# Altium footprint library CONN_TBLOCK_3P81.PcbLib: 55 footprints (part 4 of 4)
Each footprint in its own frame and in the unit in brackets; x right, y up, seen from the top. Pads: shape width x height; smd on the part's side, far side on the other; paste and mask are expansions set on the pad; w line width, h text height; cw(c..) or ccw(c..) is an arc to the next point about the centre after c.
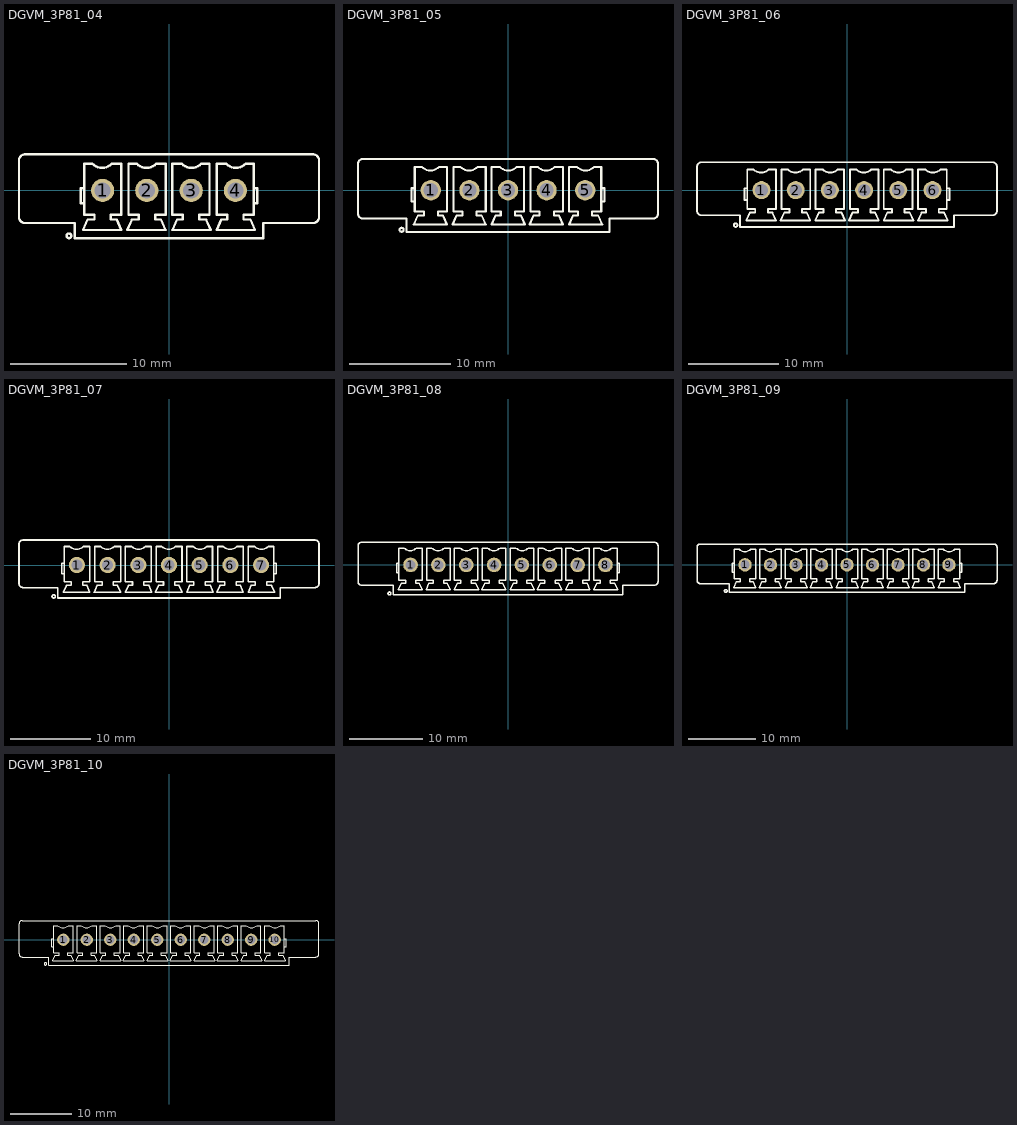
[diagram p3: the footprints below, top view; thin cyan lines are the x and y axes]

## DGVM_3P81_04 [mm] "Terminal Block, 3.81mm pitch, Straight, Screw fixed"
pads (4):
  round 2 / inner round 2 / far side oval 2.4x3 hole 1.4: 1(-5.715,0) 2(-1.905,0) 3(1.905,0) 4(5.715,0)
Top Overlay:
  circle w0.2: c-8.6,-3.9 r0.2
  lines w0.2: -7.3,-1.1 -7.6,-1.1 -7.6,0.2 -7.3,0.2 ; 7.3,-1.1 7.6,-1.1 7.6,0.2 7.3,0.2 ; -12.9,-2.3 ccw(c-12.4,-2.3) -12.4,-2.8 -8.1,-2.8 -8.1,-4.1 8.1,-4.1 8.1,-2.8 12.4,-2.8 ccw(c12.4,-2.3) 12.9,-2.3 12.9,2.6 ccw(c12.4,2.6) 12.4,3.1 -12.4,3.1 ccw(c-12.4,2.6) -12.9,2.6 -12.9,-2.3 ; -7.4,-3.4 -4.1,-3.4 -4.5,-2.5 -5,-2.5 -5,-2.1 -4.1,-2.1 -4.1,2.3 -4.901,2.301 cw(c-5.75,3.15) -6.599,2.301 -7.3,2.3 -7.3,-2.1 -6.4,-2.1 -6.4,-2.5 -7,-2.5 -7.4,-3.4 ; -3.59,-3.4 -0.29,-3.4 -0.69,-2.5 -1.19,-2.5 -1.19,-2.1 -0.29,-2.1 -0.29,2.3 -1.091,2.301 cw(c-1.94,3.15) -2.789,2.301 -3.49,2.3 -3.49,-2.1 -2.59,-2.1 -2.59,-2.5 -3.19,-2.5 -3.59,-3.4 ; 0.29,-3.4 3.59,-3.4 3.19,-2.5 2.59,-2.5 2.59,-2.1 3.49,-2.1 3.49,2.3 2.789,2.301 cw(c1.94,3.15) 1.091,2.301 0.29,2.3 0.29,-2.1 1.19,-2.1 1.19,-2.5 0.69,-2.5 0.29,-3.4 ; 4.1,-3.4 7.4,-3.4 7,-2.5 6.4,-2.5 6.4,-2.1 7.3,-2.1 7.3,2.3 6.599,2.301 cw(c5.75,3.15) 4.901,2.301 4.1,2.3 4.1,-2.1 5,-2.1 5,-2.5 4.5,-2.5 4.1,-3.4
3D body "TBP02R2W-381-04GR.step": height 9.3, standoff -3.4, extent -12.815,-4.2 12.815,3

## DGVM_3P81_05 [mm] "Terminal Block, 3.81mm pitch, Straight, Screw fixed"
pads (5):
  round 2 / inner round 2 / far side oval 2.4x3 hole 1.4: 1(-7.62,0) 2(-3.81,0) 3(0,0) 4(3.81,0) 5(7.62,0)
Top Overlay:
  circle w0.2: c-10.505,-3.9 r0.2
  lines w0.2: -9.205,-1.1 -9.505,-1.1 -9.505,0.2 -9.205,0.2 ; 9.205,-1.1 9.505,-1.1 9.505,0.2 9.205,0.2 ; -14.805,-2.3 ccw(c-14.305,-2.3) -14.305,-2.8 -10.005,-2.8 -10.005,-4.1 10.005,-4.1 10.005,-2.8 14.305,-2.8 ccw(c14.305,-2.3) 14.805,-2.3 14.805,2.6 ccw(c14.305,2.6) 14.305,3.1 -14.305,3.1 ccw(c-14.305,2.6) -14.805,2.6 -14.805,-2.3 ; -9.305,-3.4 -8.905,-2.5 -8.305,-2.5 -8.305,-2.1 -9.205,-2.1 -9.205,2.3 -8.504,2.301 ccw(c-7.655,3.15) -6.806,2.301 -6.005,2.3 -6.005,-2.1 -6.905,-2.1 -6.905,-2.5 -6.405,-2.5 -6.005,-3.4 -9.305,-3.4 ; -5.495,-3.4 -2.195,-3.4 -2.595,-2.5 -3.095,-2.5 -3.095,-2.1 -2.195,-2.1 -2.195,2.3 -2.996,2.301 cw(c-3.845,3.15) -4.694,2.301 -5.395,2.3 -5.395,-2.1 -4.495,-2.1 -4.495,-2.5 -5.095,-2.5 -5.495,-3.4 ; -1.615,-3.4 1.685,-3.4 1.285,-2.5 0.685,-2.5 0.685,-2.1 1.585,-2.1 1.585,2.3 0.884,2.301 cw(c0.035,3.15) -0.814,2.301 -1.615,2.3 -1.615,-2.1 -0.715,-2.1 -0.715,-2.5 -1.215,-2.5 -1.615,-3.4 ; 2.125,-3.4 5.425,-3.4 5.025,-2.5 4.525,-2.5 4.525,-2.1 5.425,-2.1 5.425,2.3 4.624,2.301 cw(c3.775,3.15) 2.926,2.301 2.225,2.3 2.225,-2.1 3.125,-2.1 3.125,-2.5 2.525,-2.5 2.125,-3.4 ; 6.005,-3.4 9.305,-3.4 8.905,-2.5 8.305,-2.5 8.305,-2.1 9.205,-2.1 9.205,2.3 8.504,2.301 cw(c7.655,3.15) 6.806,2.301 6.005,2.3 6.005,-2.1 6.905,-2.1 6.905,-2.5 6.405,-2.5 6.005,-3.4
3D body "TBP02R2W-381-05GR.step": height 9.3, standoff -3.4, extent -14.72,-4.2 14.72,3

## DGVM_3P81_06 [mm] "Terminal Block, 3.81mm pitch, Straight, Screw fixed"
pads (6):
  round 2 / inner round 2 / far side oval 2.4x3 hole 1.4: 1(-9.525,0) 2(-5.715,0) 3(-1.905,0) 4(1.905,0) 5(5.715,0) 6(9.525,0)
Top Overlay:
  circle w0.2: c-12.41,-3.9 r0.2
  lines w0.2: -11.11,-1.1 -11.41,-1.1 -11.41,0.2 -11.11,0.2 ; 11.11,-1.1 11.41,-1.1 11.41,0.2 11.11,0.2 ; -16.71,-2.3 ccw(c-16.21,-2.3) -16.21,-2.8 -11.91,-2.8 -11.91,-4.1 11.91,-4.1 11.91,-2.8 16.21,-2.8 ccw(c16.21,-2.3) 16.71,-2.3 16.71,2.6 ccw(c16.21,2.6) 16.21,3.1 -16.21,3.1 ccw(c-16.21,2.6) -16.71,2.6 -16.71,-2.3 ; -11.21,-3.4 -10.81,-2.5 -10.21,-2.5 -10.21,-2.1 -11.11,-2.1 -11.11,2.3 -10.409,2.301 ccw(c-9.56,3.15) -8.711,2.301 -7.91,2.3 -7.91,-2.1 -8.81,-2.1 -8.81,-2.5 -8.31,-2.5 -7.91,-3.4 -11.21,-3.4 ; -7.4,-3.4 -4.1,-3.4 -4.5,-2.5 -5,-2.5 -5,-2.1 -4.1,-2.1 -4.1,2.3 -4.901,2.301 cw(c-5.75,3.15) -6.599,2.301 -7.3,2.3 -7.3,-2.1 -6.4,-2.1 -6.4,-2.5 -7,-2.5 -7.4,-3.4 ; -3.52,-3.4 -0.22,-3.4 -0.62,-2.5 -1.22,-2.5 -1.22,-2.1 -0.32,-2.1 -0.32,2.3 -1.021,2.301 cw(c-1.87,3.15) -2.719,2.301 -3.52,2.3 -3.52,-2.1 -2.62,-2.1 -2.62,-2.5 -3.12,-2.5 -3.52,-3.4 ; 0.22,-3.4 3.52,-3.4 3.12,-2.5 2.62,-2.5 2.62,-2.1 3.52,-2.1 3.52,2.3 2.719,2.301 cw(c1.87,3.15) 1.021,2.301 0.32,2.3 0.32,-2.1 1.22,-2.1 1.22,-2.5 0.62,-2.5 0.22,-3.4 ; 4.1,-3.4 7.4,-3.4 7,-2.5 6.4,-2.5 6.4,-2.1 7.3,-2.1 7.3,2.3 6.599,2.301 cw(c5.75,3.15) 4.901,2.301 4.1,2.3 4.1,-2.1 5,-2.1 5,-2.5 4.5,-2.5 4.1,-3.4 ; 7.91,-3.4 11.21,-3.4 10.81,-2.5 10.21,-2.5 10.21,-2.1 11.11,-2.1 11.11,2.3 10.409,2.301 cw(c9.56,3.15) 8.711,2.301 7.91,2.3 7.91,-2.1 8.81,-2.1 8.81,-2.5 8.31,-2.5 7.91,-3.4
3D body "TBP02R2W-381-06GR.step": height 9.3, standoff -3.4, extent -16.625,-4.2 16.625,3

## DGVM_3P81_07 [mm] "Terminal Block, 3.81mm pitch, Straight, Screw fixed"
pads (7):
  round 2 / inner round 2 / far side oval 2.4x3 hole 1.4: 1(-11.43,0) 2(-7.62,0) 3(-3.81,0) 4(0,0) 5(3.81,0) 6(7.62,0) 7(11.43,0)
Top Overlay:
  circle w0.2: c-14.315,-3.9 r0.2
  lines w0.2: -13.015,-1.1 -13.315,-1.1 -13.315,0.2 -13.015,0.2 ; 13.015,-1.1 13.315,-1.1 13.315,0.2 13.015,0.2 ; -18.615,-2.3 ccw(c-18.115,-2.3) -18.115,-2.8 -13.815,-2.8 -13.815,-4.1 13.815,-4.1 13.815,-2.8 18.115,-2.8 ccw(c18.115,-2.3) 18.615,-2.3 18.615,2.6 ccw(c18.115,2.6) 18.115,3.1 -18.115,3.1 ccw(c-18.115,2.6) -18.615,2.6 -18.615,-2.3 ; -13.115,-3.4 -9.815,-3.4 -10.215,-2.5 -10.715,-2.5 -10.715,-2.1 -9.815,-2.1 -9.815,2.3 -10.616,2.301 cw(c-11.465,3.15) -12.314,2.301 -13.015,2.3 -13.015,-2.1 -12.115,-2.1 -12.115,-2.5 -12.715,-2.5 -13.115,-3.4 ; -9.305,-3.4 -8.905,-2.5 -8.305,-2.5 -8.305,-2.1 -9.205,-2.1 -9.205,2.3 -8.504,2.301 ccw(c-7.655,3.15) -6.806,2.301 -6.005,2.3 -6.005,-2.1 -6.905,-2.1 -6.905,-2.5 -6.405,-2.5 -6.005,-3.4 -9.305,-3.4 ; -5.425,-3.4 -5.025,-2.5 -4.525,-2.5 -4.525,-2.1 -5.425,-2.1 -5.425,2.3 -4.624,2.301 ccw(c-3.775,3.15) -2.926,2.301 -2.225,2.3 -2.225,-2.1 -3.125,-2.1 -3.125,-2.5 -2.525,-2.5 -2.125,-3.4 -5.425,-3.4 ; -1.685,-3.4 -1.285,-2.5 -0.685,-2.5 -0.685,-2.1 -1.585,-2.1 -1.585,2.3 -0.884,2.301 ccw(c-0.035,3.15) 0.814,2.301 1.615,2.3 1.615,-2.1 0.715,-2.1 0.715,-2.5 1.215,-2.5 1.615,-3.4 -1.685,-3.4 ; 2.195,-3.4 2.595,-2.5 3.095,-2.5 3.095,-2.1 2.195,-2.1 2.195,2.3 2.996,2.301 ccw(c3.845,3.15) 4.694,2.301 5.395,2.3 5.395,-2.1 4.495,-2.1 4.495,-2.5 5.095,-2.5 5.495,-3.4 2.195,-3.4 ; 5.935,-3.4 6.335,-2.5 6.935,-2.5 6.935,-2.1 6.035,-2.1 6.035,2.3 6.736,2.301 ccw(c7.585,3.15) 8.434,2.301 9.235,2.3 9.235,-2.1 8.335,-2.1 8.335,-2.5 8.835,-2.5 9.235,-3.4 5.935,-3.4 ; 9.815,-3.4 10.215,-2.5 10.715,-2.5 10.715,-2.1 9.815,-2.1 9.815,2.3 10.616,2.301 ccw(c11.465,3.15) 12.314,2.301 13.015,2.3 13.015,-2.1 12.115,-2.1 12.115,-2.5 12.715,-2.5 13.115,-3.4 9.815,-3.4
3D body "TBP02R2W-381-07GR.step": height 9.3, standoff -3.4, extent -18.53,-4.2 18.53,3

## DGVM_3P81_08 [mm] "Terminal Block, 3.81mm pitch, Straight, Screw fixed"
pads (8):
  round 2 / inner round 2 / far side oval 2.4x3 hole 1.4: 1(-13.335,0) 2(-9.525,0) 3(-5.715,0) 4(-1.905,0) 5(1.905,0) 6(5.715,0) 7(9.525,0) 8(13.335,0)
Top Overlay:
  circle w0.2: c-16.22,-3.9 r0.2
  lines w0.2: -14.92,-1.1 -15.22,-1.1 -15.22,0.2 -14.92,0.2 ; 14.92,-1.1 15.22,-1.1 15.22,0.2 14.92,0.2 ; -20.52,-2.3 ccw(c-20.02,-2.3) -20.02,-2.8 -15.72,-2.8 -15.72,-4.1 15.72,-4.1 15.72,-2.8 20.02,-2.8 ccw(c20.02,-2.3) 20.52,-2.3 20.52,2.6 ccw(c20.02,2.6) 20.02,3.1 -20.02,3.1 ccw(c-20.02,2.6) -20.52,2.6 -20.52,-2.3 ; -15.02,-3.4 -14.62,-2.5 -14.02,-2.5 -14.02,-2.1 -14.92,-2.1 -14.92,2.3 -14.219,2.301 ccw(c-13.37,3.15) -12.521,2.301 -11.72,2.3 -11.72,-2.1 -12.62,-2.1 -12.62,-2.5 -12.12,-2.5 -11.72,-3.4 -15.02,-3.4 ; -11.21,-3.4 -7.91,-3.4 -8.31,-2.5 -8.81,-2.5 -8.81,-2.1 -7.91,-2.1 -7.91,2.3 -8.711,2.301 cw(c-9.56,3.15) -10.409,2.301 -11.11,2.3 -11.11,-2.1 -10.21,-2.1 -10.21,-2.5 -10.81,-2.5 -11.21,-3.4 ; -7.33,-3.4 -4.03,-3.4 -4.43,-2.5 -5.03,-2.5 -5.03,-2.1 -4.13,-2.1 -4.13,2.3 -4.831,2.301 cw(c-5.68,3.15) -6.529,2.301 -7.33,2.3 -7.33,-2.1 -6.43,-2.1 -6.43,-2.5 -6.93,-2.5 -7.33,-3.4 ; -3.59,-3.4 -0.29,-3.4 -0.69,-2.5 -1.19,-2.5 -1.19,-2.1 -0.29,-2.1 -0.29,2.3 -1.091,2.301 cw(c-1.94,3.15) -2.789,2.301 -3.49,2.3 -3.49,-2.1 -2.59,-2.1 -2.59,-2.5 -3.19,-2.5 -3.59,-3.4 ; 0.29,-3.4 3.59,-3.4 3.19,-2.5 2.59,-2.5 2.59,-2.1 3.49,-2.1 3.49,2.3 2.789,2.301 cw(c1.94,3.15) 1.091,2.301 0.29,2.3 0.29,-2.1 1.19,-2.1 1.19,-2.5 0.69,-2.5 0.29,-3.4 ; 4.03,-3.4 7.33,-3.4 6.93,-2.5 6.43,-2.5 6.43,-2.1 7.33,-2.1 7.33,2.3 6.529,2.301 cw(c5.68,3.15) 4.831,2.301 4.13,2.3 4.13,-2.1 5.03,-2.1 5.03,-2.5 4.43,-2.5 4.03,-3.4 ; 7.91,-3.4 11.21,-3.4 10.81,-2.5 10.21,-2.5 10.21,-2.1 11.11,-2.1 11.11,2.3 10.409,2.301 cw(c9.56,3.15) 8.711,2.301 7.91,2.3 7.91,-2.1 8.81,-2.1 8.81,-2.5 8.31,-2.5 7.91,-3.4 ; 11.72,-3.4 15.02,-3.4 14.62,-2.5 14.02,-2.5 14.02,-2.1 14.92,-2.1 14.92,2.3 14.219,2.301 cw(c13.37,3.15) 12.521,2.301 11.72,2.3 11.72,-2.1 12.62,-2.1 12.62,-2.5 12.12,-2.5 11.72,-3.4
3D body "TBP02R2W-381-08GR.step": height 9.3, standoff -3.4, extent -20.435,-4.2 20.435,3

## DGVM_3P81_09 [mm] "Terminal Block, 3.81mm pitch, Straight, Screw fixed"
pads (9):
  round 2 / inner round 2 / far side oval 2.4x3 hole 1.4: 1(-15.24,0) 2(-11.43,0) 3(-7.62,0) 4(-3.81,0) 5(0,0) 6(3.81,0) 7(7.62,0) 8(11.43,0) 9(15.24,0)
Top Overlay:
  circle w0.2: c-18.125,-3.9 r0.2
  lines w0.2: -16.825,-1.1 -17.125,-1.1 -17.125,0.2 -16.825,0.2 ; 16.825,-1.1 17.125,-1.1 17.125,0.2 16.825,0.2 ; -22.425,-2.3 ccw(c-21.925,-2.3) -21.925,-2.8 -17.625,-2.8 -17.625,-4.1 17.625,-4.1 17.625,-2.8 21.925,-2.8 ccw(c21.925,-2.3) 22.425,-2.3 22.425,2.6 ccw(c21.925,2.6) 21.925,3.1 -21.925,3.1 ccw(c-21.925,2.6) -22.425,2.6 -22.425,-2.3 ; -16.925,-3.4 -16.525,-2.5 -15.925,-2.5 -15.925,-2.1 -16.825,-2.1 -16.825,2.3 -16.124,2.301 ccw(c-15.275,3.15) -14.426,2.301 -13.625,2.3 -13.625,-2.1 -14.525,-2.1 -14.525,-2.5 -14.025,-2.5 -13.625,-3.4 -16.925,-3.4 ; -13.115,-3.4 -9.815,-3.4 -10.215,-2.5 -10.715,-2.5 -10.715,-2.1 -9.815,-2.1 -9.815,2.3 -10.616,2.301 cw(c-11.465,3.15) -12.314,2.301 -13.015,2.3 -13.015,-2.1 -12.115,-2.1 -12.115,-2.5 -12.715,-2.5 -13.115,-3.4 ; -9.235,-3.4 -5.935,-3.4 -6.335,-2.5 -6.935,-2.5 -6.935,-2.1 -6.035,-2.1 -6.035,2.3 -6.736,2.301 cw(c-7.585,3.15) -8.434,2.301 -9.235,2.3 -9.235,-2.1 -8.335,-2.1 -8.335,-2.5 -8.835,-2.5 -9.235,-3.4 ; -5.495,-3.4 -2.195,-3.4 -2.595,-2.5 -3.095,-2.5 -3.095,-2.1 -2.195,-2.1 -2.195,2.3 -2.996,2.301 cw(c-3.845,3.15) -4.694,2.301 -5.395,2.3 -5.395,-2.1 -4.495,-2.1 -4.495,-2.5 -5.095,-2.5 -5.495,-3.4 ; -1.615,-3.4 1.685,-3.4 1.285,-2.5 0.685,-2.5 0.685,-2.1 1.585,-2.1 1.585,2.3 0.884,2.301 cw(c0.035,3.15) -0.814,2.301 -1.615,2.3 -1.615,-2.1 -0.715,-2.1 -0.715,-2.5 -1.215,-2.5 -1.615,-3.4 ; 2.125,-3.4 5.425,-3.4 5.025,-2.5 4.525,-2.5 4.525,-2.1 5.425,-2.1 5.425,2.3 4.624,2.301 cw(c3.775,3.15) 2.926,2.301 2.225,2.3 2.225,-2.1 3.125,-2.1 3.125,-2.5 2.525,-2.5 2.125,-3.4 ; 6.005,-3.4 9.305,-3.4 8.905,-2.5 8.305,-2.5 8.305,-2.1 9.205,-2.1 9.205,2.3 8.504,2.301 cw(c7.655,3.15) 6.806,2.301 6.005,2.3 6.005,-2.1 6.905,-2.1 6.905,-2.5 6.405,-2.5 6.005,-3.4 ; 9.745,-3.4 13.045,-3.4 12.645,-2.5 12.145,-2.5 12.145,-2.1 13.045,-2.1 13.045,2.3 12.244,2.301 cw(c11.395,3.15) 10.546,2.301 9.845,2.3 9.845,-2.1 10.745,-2.1 10.745,-2.5 10.145,-2.5 9.745,-3.4 ; 13.625,-3.4 16.925,-3.4 16.525,-2.5 15.925,-2.5 15.925,-2.1 16.825,-2.1 16.825,2.3 16.124,2.301 cw(c15.275,3.15) 14.426,2.301 13.625,2.3 13.625,-2.1 14.525,-2.1 14.525,-2.5 14.025,-2.5 13.625,-3.4
3D body "TBP02R2W-381-09GR.step": height 9.3, standoff -3.4, extent -22.34,-4.2 22.34,3

## DGVM_3P81_10 [mm] "Terminal Block, 3.81mm pitch, Straight, Screw fixed"
pads (10):
  round 2 / inner round 2 / far side oval 2.4x3 hole 1.4: 1(-17.145,0) 2(-13.335,0) 3(-9.525,0) 4(-5.715,0) 5(-1.905,0) 6(1.905,0) 7(5.715,0) 8(9.525,0) 9(13.335,0) 10(17.145,0)
Top Overlay:
  drawing of 159 lines, arcs and shapes, not listed
3D body "TBP02R2W-381-10GR.step": height 9.3, standoff -3.4, extent -24.245,-4.2 24.245,3